# Altium footprint library Ad-Flier_Footprints.PcbLib: 38 footprints (part 2 of 3)
Each footprint in its own frame and in the unit in brackets; x right, y up, seen from the top. Pads: shape width x height; smd on the part's side, far side on the other; paste and mask are expansions set on the pad; w line width, h text height; cw(c..) or ccw(c..) is an arc to the next point about the centre after c.
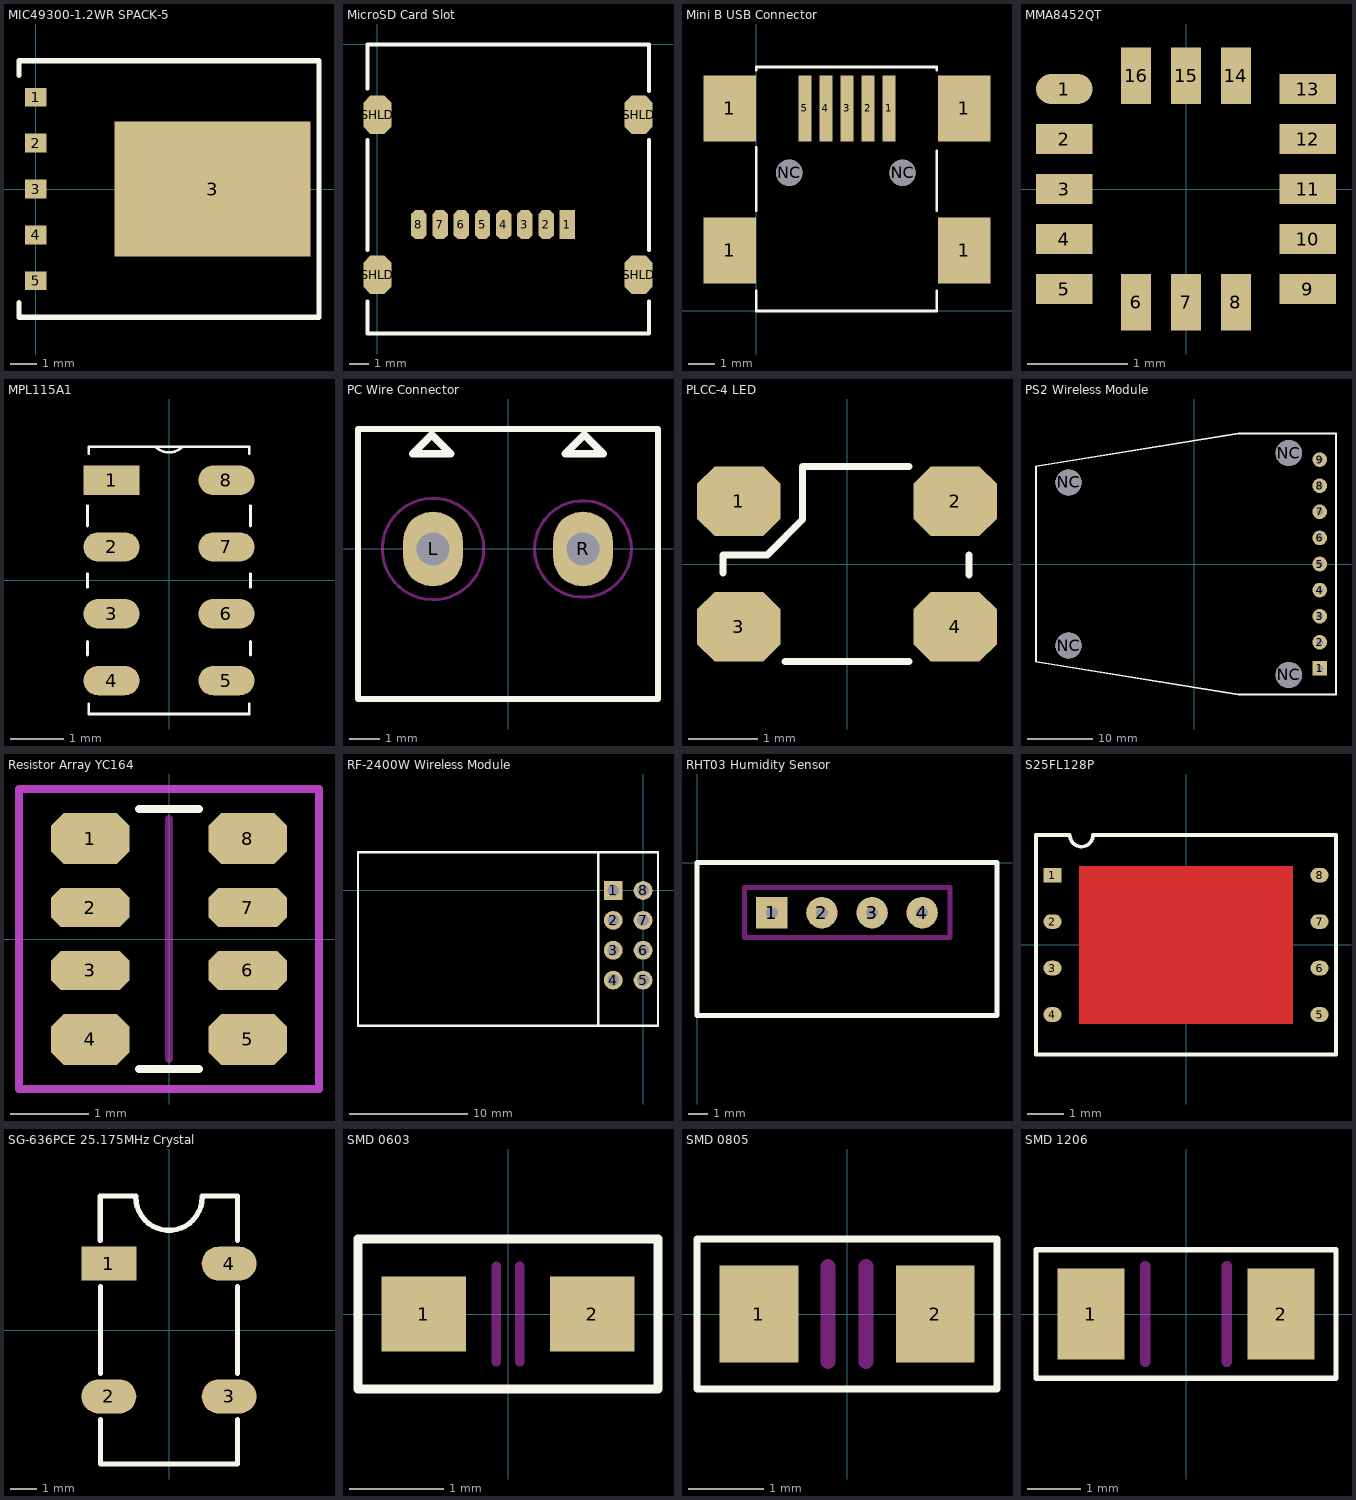
[diagram p1: the footprints below, top view; thin cyan lines are the x and y axes]

## MIC49300-1.2WR SPACK-5 [mm]
pads (6):
  rect 0.8x0.7 smd: 1(0,3.4) 2(0,1.7) 3(0,0) 4(0,-1.7) 5(0,-3.4)
  rect 7.25x5 smd: 3(6.555,0)
Top Overlay:
  lines w0.2: -0.616,-4.21 -0.616,-4.75 10.5,-4.75 10.5,4.75 -0.616,4.75 -0.616,4.21

## MicroSD Card Slot [mm]
pads (12):
  rect 0.8x1.5 smd: 1(9.859,-9.35)
  oct 0.8x1.5 smd: 2(8.759,-9.35) 3(7.659,-9.35) 4(6.559,-9.35) 5(5.459,-9.35) 6(4.359,-9.35) 7(3.259,-9.35) 8(2.159,-9.35)
  oct 1.45x2 smd: SHLD(0,-11.95) SHLD(0,-3.65) SHLD(13.56,-11.95) SHLD(13.56,-3.65)
Top Overlay:
  lines w0.2: -0.508,-13.335 -0.508,-15 14.092,-15 14.092,-13.34 ; -0.508,-10.668 -0.508,-4.953 ; -0.508,-2.286 -0.508,0 14.092,0 14.092,-2.408 ; 14.097,-10.668 14.097,-4.953

## Mini B USB Connector [mm]
pads (11):
  rect 2x2.5 smd: 1(-1,2.3) 1(-1,7.7) 1(7.9,2.3) 1(7.9,7.7)
  rect 0.5x2.5 smd: 1(5.05,7.7) 2(4.25,7.7) 3(3.45,7.7) 4(2.65,7.7) 5(1.85,7.7)
  round 1 hole 1: NC(1.25,5.25) NC(5.56,5.25)
Top Overlay:
  lines w0.1: 0,0.762 0,0 6.858,0 6.858,0.762 ; 0,3.81 0,6.223 ; 0,9.144 0,9.271 6.858,9.271 6.858,9.144 ; 6.858,3.81 6.858,6.096

## MMA8452QT [mm]
pads (16):
  oval 0.567x0.3 smd: 1(-1.216,1)
  rect 0.567x0.3 smd: 2(-1.216,0.5) 3(-1.216,0) 4(-1.216,-0.5) 5(-1.216,-1) 9(1.216,-1) 10(1.216,-0.5) 11(1.216,0) 12(1.216,0.5) 13(1.216,1)
  rect 0.3x0.567 smd: 6(-0.5,-1.134) 7(0,-1.134) 8(0.5,-1.134) 14(0.5,1.134) 15(0,1.134) 16(-0.5,1.134)

## MPL115A1 [mm]
pads (8):
  rect 1.05x0.55 smd: 1(-1.075,1.875)
  oval 1.05x0.55 smd: 2(-1.075,0.625) 3(-1.075,-0.625) 4(-1.075,-1.875) 5(1.075,-1.875) 6(1.075,-0.625) 7(1.075,0.625) 8(1.075,1.875)
Top Overlay:
  lines w0.05: -1.524,-1.397 -1.524,-1.143 ; -1.524,-0.127 -1.524,0.127 ; -1.524,1.016 -1.524,1.397 ; -1.5,-2.31 -1.5,-2.5 1.5,-2.5 1.5,-2.31 ; -1.5,2.373 -1.5,2.5 1.5,2.5 1.5,2.373 ; -0.254,2.5 ccw(c0,2.754) 0.254,2.5 ; 1.524,-1.397 1.524,-1.143 ; 1.524,-0.127 1.524,0.127 ; 1.524,1.016 1.524,1.397

## PC Wire Connector [mm]
pads (2):
  oval 2x2.5 hole 1.1: L(-2.5,0) R(2.5,0)
Top Layer keep-out:
  circle w0.1: c-2.5,0 r1.691
  circle w0.1: c2.5,0 r1.611
Top Overlay:
  lines w0.2: -5,-5 -5,4 5,4 5,-5 -5,-5
  lines w0.254: -3.175,3.175 -1.905,3.175 -2.54,3.81 -3.175,3.175 ; 1.905,3.175 3.175,3.175 2.54,3.81 1.905,3.175

## PLCC-4 LED [mm]
height 2
pads (4):
  oct 1.2x1 smd: 1(-1.55,0.9) 2(1.55,0.9) 3(-1.55,-0.9) 4(1.55,-0.9)
Top Overlay:
  lines w0.1: -1.778,-0.127 -1.778,0.127 -1.143,0.127 -0.635,0.635 -0.635,1.397 0.889,1.397 ; -0.889,-1.397 0.889,-1.397 ; 1.75,-0.155 1.75,0.127

## PS2 Wireless Module [mm]
pads (13):
  rect 2.25x2.25 hole 1: 1(19.25,-16)
  round 2.25 hole 1: 2(19.25,-12) 3(19.25,-8) 4(19.25,-4) 5(19.25,0) 6(19.25,4) 7(19.25,8) 8(19.25,12) 9(19.25,16)
  round 4 hole 4 mask+0: NC(-19.25,-12.5) NC(-19.25,12.5) NC(14.5,-17) NC(14.5,17)
Top Overlay:
  lines w0.254: -24.25,-15 -24.25,15 6.75,20 21.75,20 21.75,-20 6.75,-20 -24.25,-15
3D body: height 6, standoff 0, extent -24.251,-20.001 21.751,20.001

## Resistor Array YC164 [mm]
pads (8):
  oct 1x0.65 smd: 1(-1,1.275) 4(-1,-1.275) 5(1,-1.275) 8(1,1.275)
  oct 1x0.5 smd: 2(-1,0.4) 3(-1,-0.4) 6(1,-0.4) 7(1,0.4)
Top Layer keep-out:
  lines w0.1: 0,-1.524 0,1.524
Top Overlay:
  lines w0.1: -0.381,-1.651 0.381,-1.651 ; -0.381,1.651 0.381,1.651
Mechanical 1 keep-out:
  lines w0.1: -1.905,-1.905 1.905,-1.905 1.905,1.905 -1.905,1.905 -1.905,-1.905

## RF-2400W Wireless Module [mm]
pads (8):
  rect 1.6x1.6 hole 1: 1(-2.54,0)
  round 1.6 hole 1: 2(-2.54,-2.54) 3(-2.54,-5.08) 4(-2.54,-7.62) 5(0,-7.62) 6(0,-5.08) 7(0,-2.54) 8(0,0)
Top Overlay:
  lines w0.2: -3.81,-11.5 -3.81,3.25 ; -24.23,-11.5 -24.23,3.25 1.27,3.25 1.27,-11.5 -24.23,-11.5

## RHT03 Humidity Sensor [mm]
pads (4):
  rect 1.6x1.6 hole 0.6: 1(3.8,-2.54)
  round 1.6 hole 0.6: 2(6.34,-2.54) 3(8.88,-2.54) 4(11.42,-2.54)
Top Layer keep-out:
  lines w0.254: 2.413,-3.81 2.413,-1.27 12.827,-1.27 12.827,-3.81 2.413,-3.81
Top Overlay:
  lines w0.254: 0,-7.75 15.22,-7.75 15.22,0 0,0 0,-7.75

## S25FL128P [mm]
pads (8):
  rect 0.5x0.4 smd: 1(-3.65,1.905)
  oval 0.5x0.4 smd: 2(-3.65,0.635) 3(-3.65,-0.635) 4(-3.65,-1.905) 5(3.65,-1.905) 6(3.65,-0.635) 7(3.65,0.635) 8(3.65,1.905)
Top Layer:
  rectangle: -2.921,-2.159 2.921,2.159
Top Overlay:
  lines w0.1: -4.1,-3 -4.1,3 -3.175,3 ccw(c-2.857,3) -2.54,3 4.1,3 4.1,-3 -4.1,-3

## SG-636PCE 25.175MHz Crystal [mm]
pads (4):
  rect 2.1x1.3 smd: 1(-2.3,2.54)
  oval 2.1x1.3 smd: 2(-2.3,-2.54) 3(2.3,-2.54) 4(2.3,2.54)
Top Overlay:
  lines w0.2: -2.633,3.437 -2.633,5.125 -1.27,5.125 ; -2.625,-3.429 -2.625,-5.125 2.625,-5.125 2.625,-3.429 ; -2.625,-1.651 -2.625,1.651 ; -1.27,5.08 ccw(c0,5.08) 1.27,5.08 ; 1.27,5.125 2.625,5.125 2.625,3.429 ; 2.625,-1.651 2.625,1.651

## SMD 0603 [mm]
pads (2):
  rect 0.9x0.8 smd: 1(-0.9,0) 2(0.9,0)
Top Layer keep-out:
  lines w0.1: -0.127,-0.508 -0.127,0.508 ; 0.127,-0.508 0.127,0.508
Top Overlay:
  lines w0.1: -1.6,-0.8 -1.6,0 -1.6,0.8 1.6,0.8 1.6,-0.8 -1.6,-0.8

## SMD 0805 [mm]
pads (2):
  rect 1.05x1.3 smd: 1(-1.175,0) 2(1.175,0)
Top Layer keep-out:
  lines w0.2: -0.254,-0.635 -0.254,0.635 ; 0.254,-0.635 0.254,0.635
Top Overlay:
  lines w0.1: -2,-1 -2,0 -2,1 2,1 2,-1 -2,-1

## SMD 1206 [mm]
pads (2):
  rect 1.25x1.7 smd: 1(-1.775,0) 2(1.775,0)
Top Layer keep-out:
  lines w0.2: -0.762,-0.889 -0.762,0.889 ; 0.762,-0.889 0.762,0.889
Top Overlay:
  lines w0.1: -2.8,-1.2 -2.8,0 -2.8,1.2 2.8,1.2 2.8,-1.2 -2.8,-1.2